# Altium schematic symbol library SelfLib.SchLib: 50 symbols
Pins are listed as number, name and electrical type; pins without a type are passive.

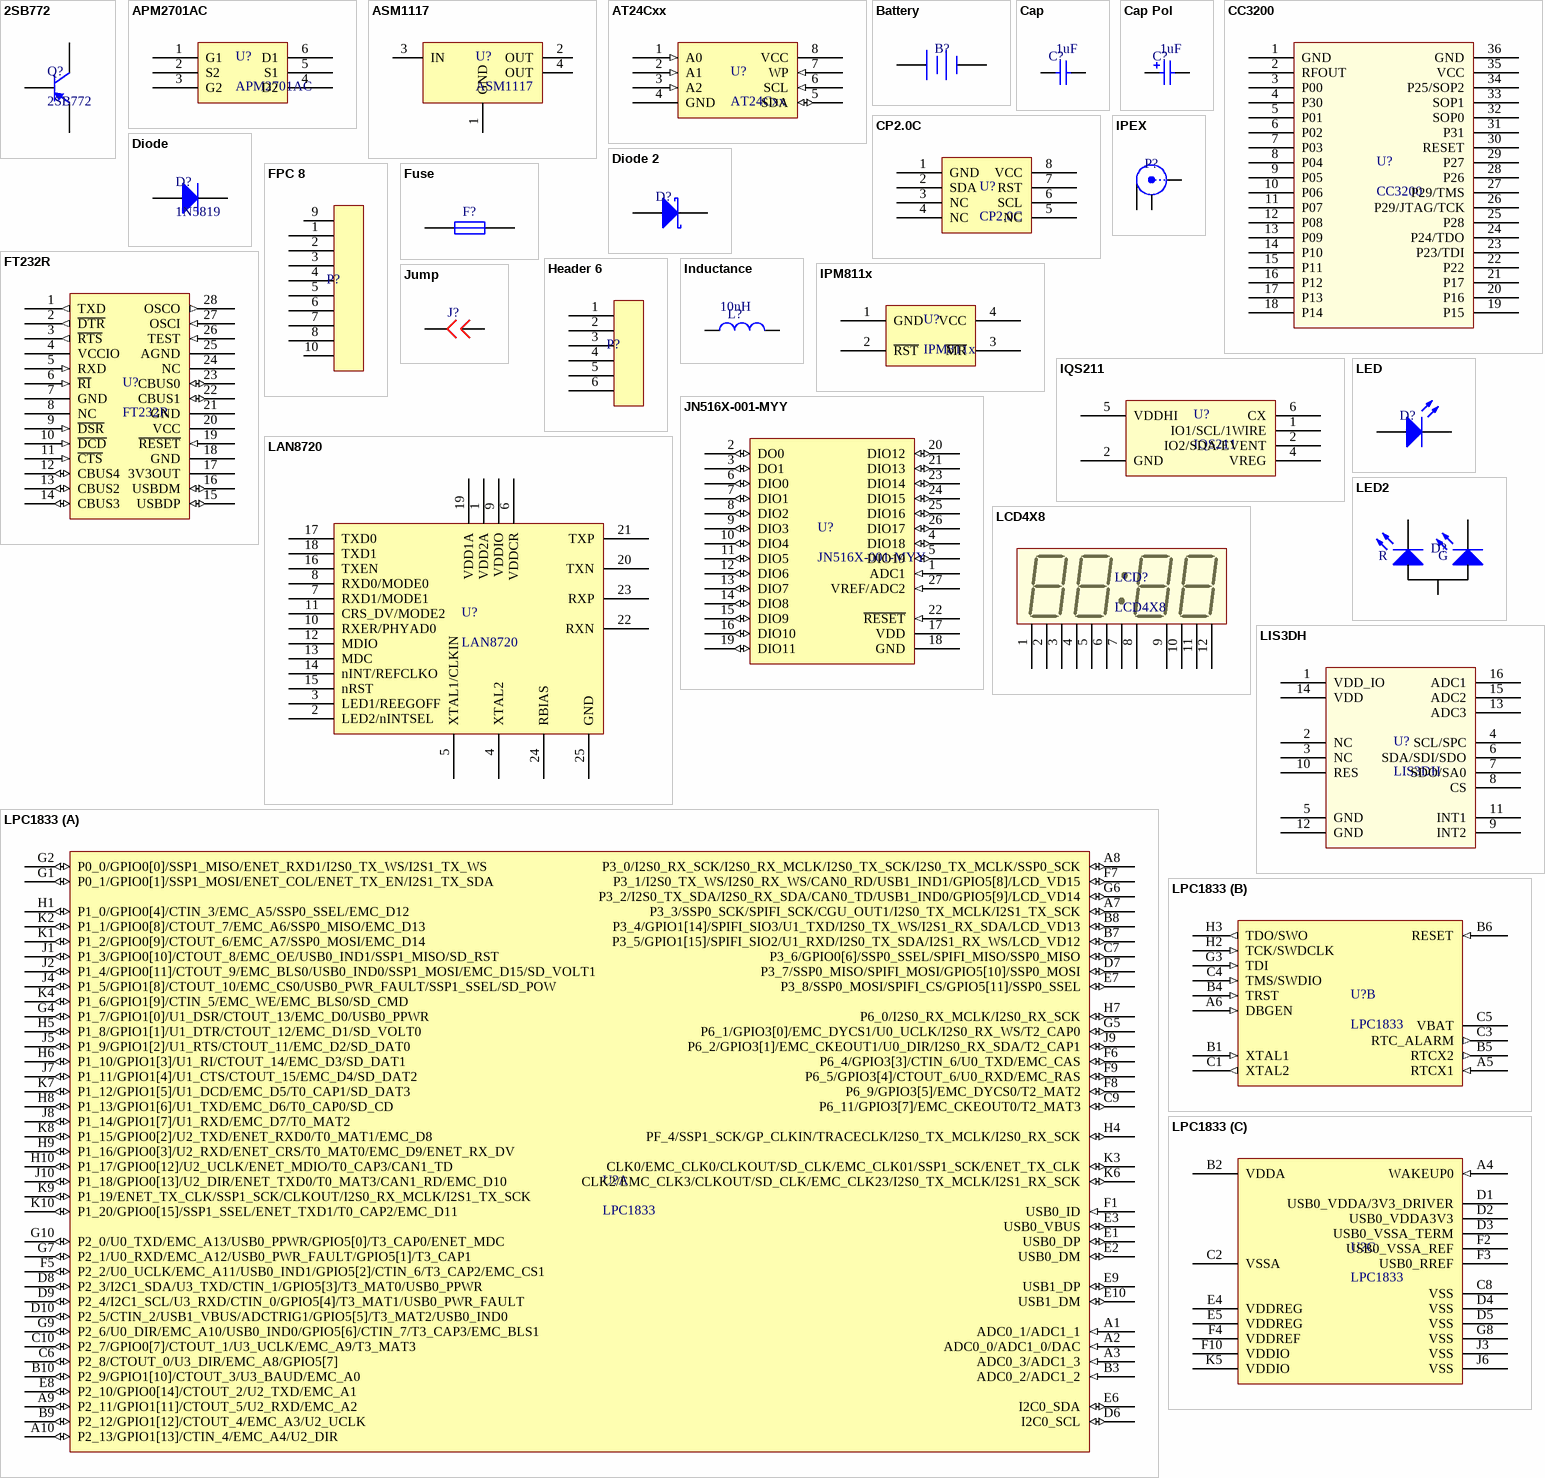
[diagram p0: symbols 2SB772 to LPC1833]

## 2SB772
designator Q?
footprint SOT-89
pins: 1 B, 2 C, 3 E

## APM2701AC
designator U?
footprint J-SOT-6
pins: 1 G1, 2 S2, 3 G2, 4 D2, 5 S1, 6 D1

## ASM1117
designator U?
footprint SOT-223
pins: 1 GND, 2 OUT, 3 IN, 4 OUT

## AT24Cxx
designator U?
footprint SOP-8
pins: 1 A0 (in), 2 A1 (in), 3 A2 (in), 4 GND (power), 5 SDA (io), 6 SCL (in), 7 WP (in), 8 VCC (power)

## Battery
designator B?  (value not drawn)
footprint SP_CR1220
pins: 1 +, 2 -

## Cap
designator C?, comment value 1uF  (hidden comment: CAP)
footprint 0402
footprint 0603
footprint 0805
footprint 1206
pins: 1, 2

## Cap Pol
designator C?, comment value 1uF  (hidden comment: Cap)
footprint 0402A
footprint 0603A
footprint 0805A
footprint 1206A
pins: 1, 2

## CC3200
designator U?
pins: 1 GND (power), 2 RFOUT (power), 3 P00 (power), 4 P30 (power), 5 P01 (power), 6 P02 (power), 7 P03 (power), 8 P04 (power), 9 P05 (power), 10 P06 (power), 11 P07 (power), 12 P08 (power), 13 P09 (power), 14 P10 (power), 15 P11 (power), 16 P12 (power), 17 P13 (power), 18 P14 (power), 19 P15 (power), 20 P16 (power), 21 P17 (power), 22 P22 (power), 23 P23/TDI (power), 24 P24/TDO (power), 25 P28 (power), 26 P29/JTAG/TCK (power), 27 P29/TMS (power), 28 P26 (power), 29 P27 (power), 30 RESET (power), 31 P31 (power), 32 SOP0 (power), 33 SOP1 (power), 34 P25/SOP2 (power), 35 VCC (power), 36 GND (power)

## CP2.0C
designator U?
footprint SP_CP2.0C
pins: 1 GND (power), 2 SDA (power), 3 NC (power), 4 NC (power), 5 NC (power), 6 SCL (power), 7 RST (power), 8 VCC (power)

## Diode
designator D?, comment 1N5819
footprint SOD-523
footprint SMA_DO-241AC
pins: 1 A, 2 K

## Diode 2
designator D?, comment B130  (value not drawn)
footprint SMA_DO-241AC
footprint SOD-523
pins: 1 A, 2 K

## FPC 8
designator P?  (value not drawn)
footprint FPC8 1.0
pins: 1, 2, 3, 4, 5, 6, 7, 8, 9, 10

## FT232R
designator U?
footprint SOP-28
pins: 1 TXD (out), 2 ~{DTR} (out), 3 ~{RTS} (out), 4 VCCIO (power), 5 RXD (in), 6 ~{RI} (in), 7 GND (power), 8 NC, 9 ~{DSR} (in), 10 ~{DCD} (in), 11 ~{CTS} (in), 12 CBUS4 (io), 13 CBUS2 (io), 14 CBUS3 (io), 15 USBDP (io), 16 USBDM (io), 17 3V3OUT (power), 18 GND (power), 19 ~{RESET} (in), 20 VCC (power), 21 GND (power), 22 CBUS1 (io), 23 CBUS0 (io), 24 NC, 25 AGND (power), 26 TEST (in), 27 OSCI (in), 28 OSCO (out)

## Fuse
designator F?  (value not drawn)
Value: 100mA
footprint 0603
footprint 0805
pins: 1, 2

## Header 6
designator P?, comment Header  (value not drawn)
footprint HDR1x6 1.27
pins: 1, 2, 3, 4, 5, 6

## Inductance
designator L?  value 10nH  (hidden comment: Inductance)
footprint 0402
footprint 0603
footprint 0805
footprint 1206
footprint GD4520/4532
footprint GDCD3516/3521
footprint GDCD5820/30/45
footprint GDCD7835/50
footprint GDCD1040/1054
pins: 1, 2

## IPEX
designator P?  (value not drawn)
RF Connector
footprint SP_IPEX
pins: 1 X, 2 Y, 3 Y'

## IPM811x
designator U?
footprint SOT143B
pins: 1 GND (power), 2 ~{RST} (power), 3 ~{MR} (power), 4 VCC (power)

## IQS211
designator U?
pins: 1 IO1/SCL/1WIRE (power), 2 IO2/SDA/EVENT (power), 2 GND (power), 4 VREG (power), 5 VDDHI (power), 6 CX (power)

## JN516X-001-MYY
designator U?
footprint SP_JN516X-001-M05
footprint SP_JN516X-001-M00
footprint SP_JN516X-001-M03
pins: 1 ADC1 (in), 2 DO0 (io), 3 DO1 (io), 4 DIO18 (io), 5 DIO19 (io), 6 DIO0 (io), 7 DIO1 (io), 8 DIO2 (io), 9 DIO3 (io), 10 DIO4 (io), 11 DIO5 (io), 12 DIO6 (io), 13 DIO7 (io), 14 DIO8 (io), 15 DIO9 (io), 16 DIO10 (io), 17 VDD (power), 18 GND (power), 19 DIO11 (io), 20 DIO12 (io), 21 DIO13 (io), 22 ~{RESET} (in), 23 DIO14 (io), 24 DIO15 (io), 25 DIO16 (io), 26 DIO17 (io), 27 VREF/ADC2 (in)

## Jump
designator J?  (value not drawn)
footprint SP_JUMP
pins: 1 C1, 2 C2

## LAN8720
designator U?
PHY
footprint QFN24_LAN8720
pins: 1 VDD2A, 2 LED2/nINTSEL, 3 LED1/REEGOFF, 4 XTAL2, 5 XTAL1/CLKIN, 6 VDDCR, 7 RXD1/MODE1, 8 RXD0/MODE0, 9 VDDIO, 10 RXER/PHYAD0, 11 CRS_DV/MODE2, 12 MDIO, 13 MDC, 14 nINT/REFCLKO, 15 nRST, 16 TXEN, 17 TXD0, 18 TXD1, 19 VDD1A, 20 TXN, 21 TXP, 22 RXN, 23 RXP, 24 RBIAS, 25 GND

## LCD4X8
designator LCD?
pins: 1 SEG1 (power), 2 SEG2 (power), 3 SEG3 (power), 4 SEG4 (power), 5 SEG5 (power), 6 SEG6 (power), 7 SEG7 (power), 8 SEG8 (power), 9 COM1 (power), 10 COM2 (power), 11 COM3 (power), 12 COM4 (power)

## LED
designator D?  (value not drawn)
Color: Green
footprint 0603A
footprint 0805A
pins: 1 A, 2 K

## LED2
designator D?, comment LED  (value not drawn)
footprint LED-D
pins: 1 K1, 2 A, 3 K2
text: R; G

## LIS3DH
designator U?
pins: 1 VDD_IO (power), 2 NC (power), 3 NC (power), 4 SCL/SPC (power), 5 GND (power), 6 SDA/SDI/SDO (power), 7 SDO/SA0 (power), 8 CS (power), 9 INT2 (power), 10 RES (power), 11 INT1 (power), 12 GND (power), 13 ADC3 (power), 14 VDD (power), 15 ADC2 (power), 16 ADC1 (power)

## LPC1833
designator U?
footprint TFBGA10x10
part A pins: A1 ADC0_1/ADC1_1 (in), A2 ADC0_0/ADC1_0/DAC (in), A3 ADC0_3/ADC1_3 (in), A7 P3_3/SSP0_SCK/SPIFI_SCK/CGU_OUT1/I2S0_TX_MCLK/I2S1_TX_SCK (io), A8 P3_0/I2S0_RX_SCK/I2S0_RX_MCLK/I2S0_TX_SCK/I2S0_TX_MCLK/SSP0_SCK (io), A9 P2_11/GPIO1[11]/CTOUT_5/U2_RXD/EMC_A2 (io), A10 P2_13/GPIO1[13]/CTIN_4/EMC_A4/U2_DIR (io), B3 ADC0_2/ADC1_2 (in), B7 P3_5/GPIO1[15]/SPIFI_SIO2/U1_RXD/I2S0_TX_SDA/I2S1_RX_WS/LCD_VD12 (io), B8 P3_4/GPIO1[14]/SPIFI_SIO3/U1_TXD/I2S0_TX_WS/I2S1_RX_SDA/LCD_VD13 (io), B9 P2_12/GPIO1[12]/CTOUT_4/EMC_A3/U2_UCLK (io), B10 P2_9/GPIO1[10]/CTOUT_3/U3_BAUD/EMC_A0 (io), C6 P2_8/CTOUT_0/U3_DIR/EMC_A8/GPIO5[7] (io), C7 P3_6/GPIO0[6]/SSP0_SSEL/SPIFI_MISO/SSP0_MISO (io), C9 P6_11/GPIO3[7]/EMC_CKEOUT0/T2_MAT3 (io), C10 P2_7/GPIO0[7]/CTOUT_1/U3_UCLK/EMC_A9/T3_MAT3 (io), D6 I2C0_SCL (io), D7 P3_7/SSP0_MISO/SPIFI_MOSI/GPIO5[10]/SSP0_MOSI (io), D8 P2_3/I2C1_SDA/U3_TXD/CTIN_1/GPIO5[3]/T3_MAT0/USB0_PPWR (io), D9 P2_4/I2C1_SCL/U3_RXD/CTIN_0/GPIO5[4]/T3_MAT1/USB0_PWR_FAULT (io), D10 P2_5/CTIN_2/USB1_VBUS/ADCTRIG1/GPIO5[5]/T3_MAT2/USB0_IND0 (io), E1 USB0_DP (io), E2 USB0_DM (io), E3 USB0_VBUS (io), E6 I2C0_SDA (io), E7 P3_8/SSP0_MOSI/SPIFI_CS/GPIO5[11]/SSP0_SSEL (io), E8 P2_10/GPIO0[14]/CTOUT_2/U2_TXD/EMC_A1 (io), E9 USB1_DP (io), E10 USB1_DM (io), F1 USB0_ID (in), F5 P2_2/U0_UCLK/EMC_A11/USB0_IND1/GPIO5[2]/CTIN_6/T3_CAP2/EMC_CS1 (io), F6 P6_4/GPIO3[3]/CTIN_6/U0_TXD/EMC_CAS (io), F7 P3_1/I2S0_TX_WS/I2S0_RX_WS/CAN0_RD/USB1_IND1/GPIO5[8]/LCD_VD15 (io), F8 P6_9/GPIO3[5]/EMC_DYCS0/T2_MAT2 (io), F9 P6_5/GPIO3[4]/CTOUT_6/U0_RXD/EMC_RAS (io), G1 P0_1/GPIO0[1]/SSP1_MOSI/ENET_COL/ENET_TX_EN/I2S1_TX_SDA (io), G2 P0_0/GPIO0[0]/SSP1_MISO/ENET_RXD1/I2S0_TX_WS/I2S1_TX_WS (io), G4 P1_7/GPIO1[0]/U1_DSR/CTOUT_13/EMC_D0/USB0_PPWR (io), G5 P6_1/GPIO3[0]/EMC_DYCS1/U0_UCLK/I2S0_RX_WS/T2_CAP0 (io), G6 P3_2/I2S0_TX_SDA/I2S0_RX_SDA/CAN0_TD/USB1_IND0/GPIO5[9]/LCD_VD14 (io), G7 P2_1/U0_RXD/EMC_A12/USB0_PWR_FAULT/GPIO5[1]/T3_CAP1 (io), G9 P2_6/U0_DIR/EMC_A10/USB0_IND0/GPIO5[6]/CTIN_7/T3_CAP3/EMC_BLS1 (io), G10 P2_0/U0_TXD/EMC_A13/USB0_PPWR/GPIO5[0]/T3_CAP0/ENET_MDC (io), H1 P1_0/GPIO0[4]/CTIN_3/EMC_A5/SSP0_SSEL/EMC_D12 (io), H4 PF_4/SSP1_SCK/GP_CLKIN/TRACECLK/I2S0_TX_MCLK/I2S0_RX_SCK (io), H5 P1_8/GPIO1[1]/U1_DTR/CTOUT_12/EMC_D1/SD_VOLT0 (io), H6 P1_10/GPIO1[3]/U1_RI/CTOUT_14/EMC_D3/SD_DAT1 (io), H7 P6_0/I2S0_RX_MCLK/I2S0_RX_SCK (io), H8 P1_13/GPIO1[6]/U1_TXD/EMC_D6/T0_CAP0/SD_CD (io), H9 P1_16/GPIO0[3]/U2_RXD/ENET_CRS/T0_MAT0/EMC_D9/ENET_RX_DV (io), H10 P1_17/GPIO0[12]/U2_UCLK/ENET_MDIO/T0_CAP3/CAN1_TD (io), J1 P1_3/GPIO0[10]/CTOUT_8/EMC_OE/USB0_IND1/SSP1_MISO/SD_RST (io), J2 P1_4/GPIO0[11]/CTOUT_9/EMC_BLS0/USB0_IND0/SSP1_MOSI/EMC_D15/SD_VOLT1 (io), J4 P1_5/GPIO1[8]/CTOUT_10/EMC_CS0/USB0_PWR_FAULT/SSP1_SSEL/SD_POW (io), J5 P1_9/GPIO1[2]/U1_RTS/CTOUT_11/EMC_D2/SD_DAT0 (io), J7 P1_11/GPIO1[4]/U1_CTS/CTOUT_15/EMC_D4/SD_DAT2 (io), J8 P1_14/GPIO1[7]/U1_RXD/EMC_D7/T0_MAT2 (io), J9 P6_2/GPIO3[1]/EMC_CKEOUT1/U0_DIR/I2S0_RX_SDA/T2_CAP1 (io), J10 P1_18/GPIO0[13]/U2_DIR/ENET_TXD0/T0_MAT3/CAN1_RD/EMC_D10 (io), K1 P1_2/GPIO0[9]/CTOUT_6/EMC_A7/SSP0_MOSI/EMC_D14 (io), K2 P1_1/GPIO0[8]/CTOUT_7/EMC_A6/SSP0_MISO/EMC_D13 (io), K3 CLK0/EMC_CLK0/CLKOUT/SD_CLK/EMC_CLK01/SSP1_SCK/ENET_TX_CLK (io), K4 P1_6/GPIO1[9]/CTIN_5/EMC_WE/EMC_BLS0/SD_CMD (io), K6 CLK2/EMC_CLK3/CLKOUT/SD_CLK/EMC_CLK23/I2S0_TX_MCLK/I2S1_RX_SCK (io), K7 P1_12/GPIO1[5]/U1_DCD/EMC_D5/T0_CAP1/SD_DAT3 (io), K8 P1_15/GPIO0[2]/U2_TXD/ENET_RXD0/T0_MAT1/EMC_D8 (io), K9 P1_19/ENET_TX_CLK/SSP1_SCK/CLKOUT/I2S0_RX_MCLK/I2S1_TX_SCK (io), K10 P1_20/GPIO0[15]/SSP1_SSEL/ENET_TXD1/T0_CAP2/EMC_D11 (io)
part B pins: A5 RTCX1 (in), A6 DBGEN (in), B1 XTAL1 (in), B4 TRST (in), B5 RTCX2 (out), B6 RESET (in), C1 XTAL2 (out), C3 RTC_ALARM (out), C4 TMS/SWDIO (in), C5 VBAT (power), G3 TDI (in), H2 TCK/SWDCLK (in), H3 TDO/SWO (out)
part C pins: A4 WAKEUP0 (in), B2 VDDA (power), C2 VSSA (power), C8 VSS (power), D1 USB0_VDDA/3V3_DRIVER (power), D2 USB0_VDDA3V3 (power), D3 USB0_VSSA_TERM (power), D4 VSS (power), D5 VSS (power), E4 VDDREG (power), E5 VDDREG (power), F2 USB0_VSSA_REF (power), F3 USB0_RREF, F4 VDDREF (power), F10 VDDIO (power), G8 VSS (power), J3 VSS (power), J6 VSS (power), K5 VDDIO (power)

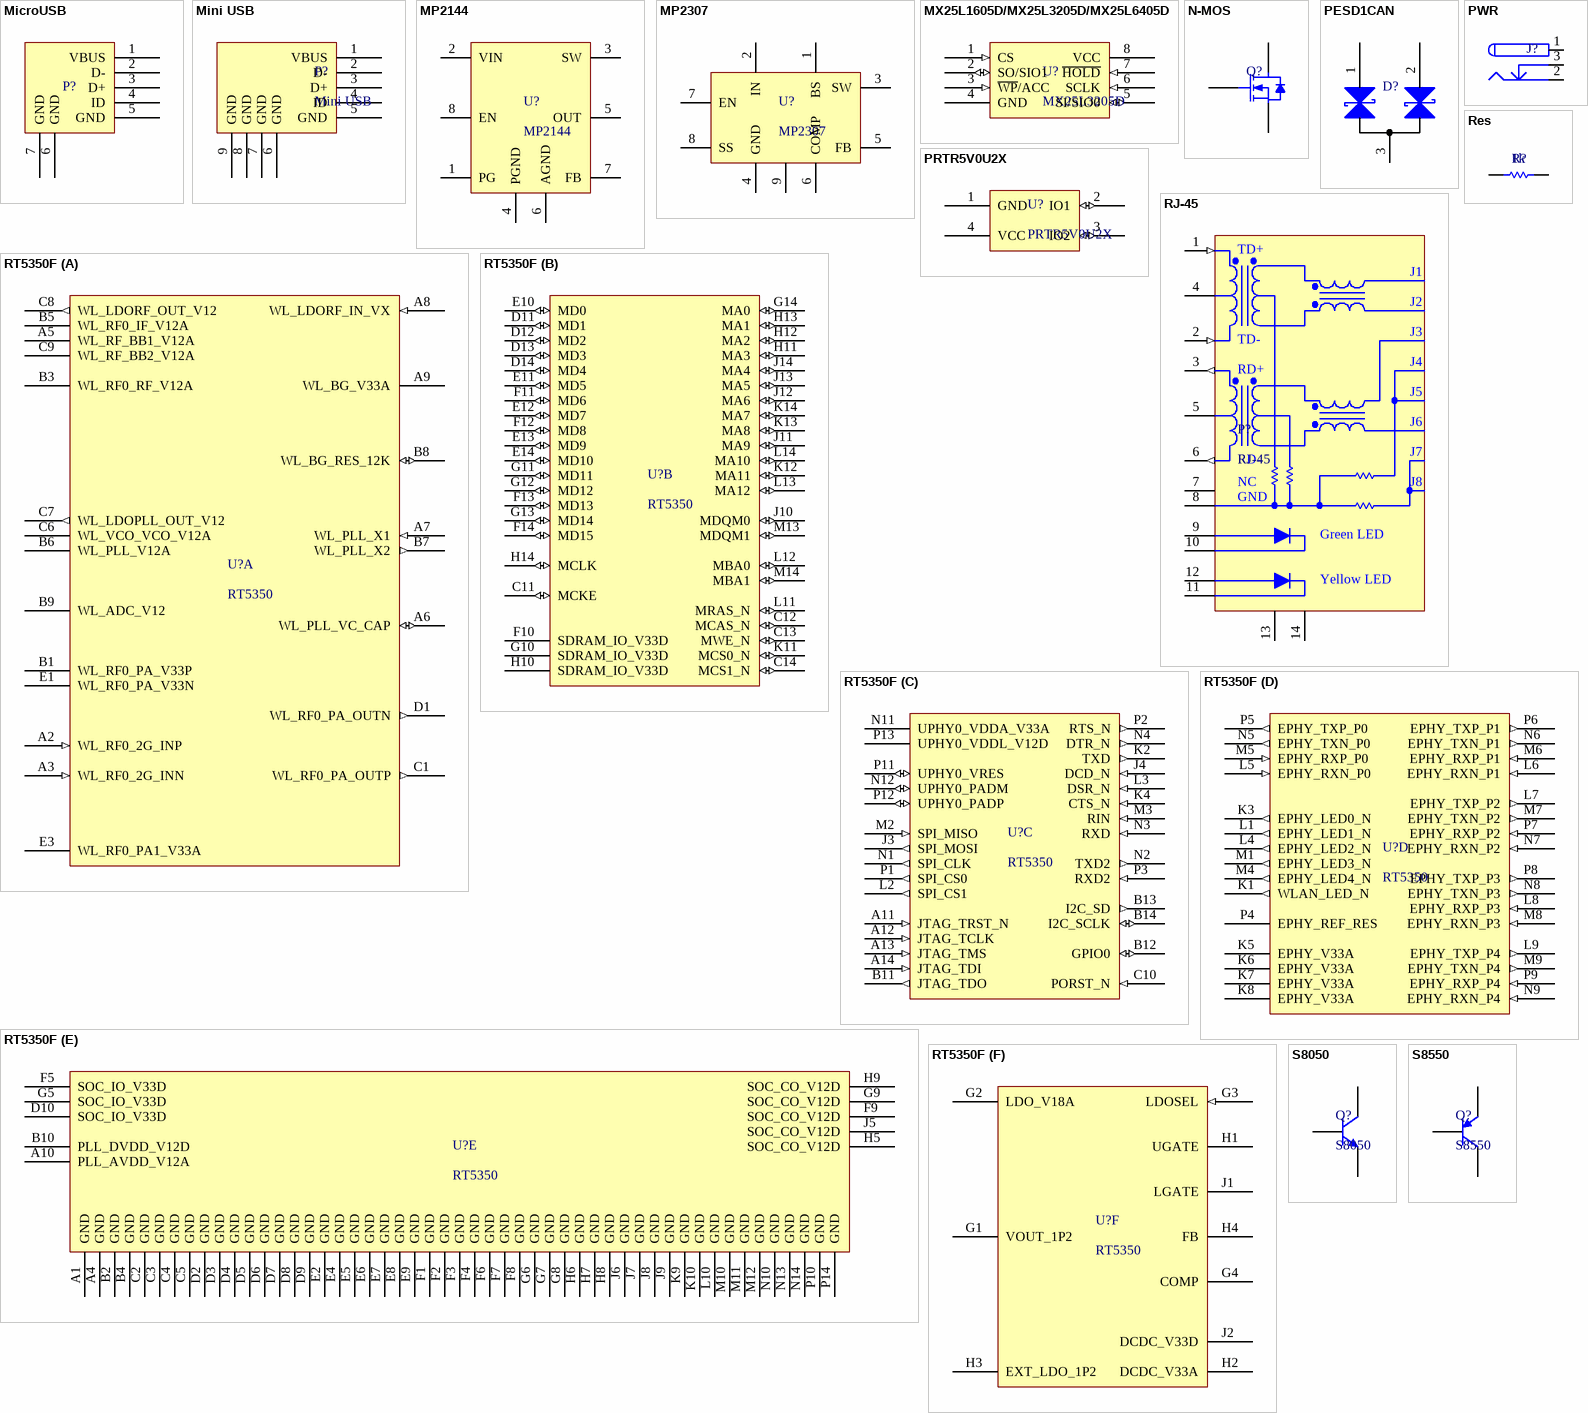
[diagram p1: symbols MicroUSB to S8550]

## MicroUSB
designator P?, comment Micro USB  (value not drawn)
footprint USB_MICRO_FE
pins: 1 VBUS, 2 D-, 3 D+, 4 ID, 5 GND, 6 GND, 7 GND

## Mini USB
designator P?
footprint USB_MINI_FE
pins: 1 VBUS, 2 D-, 3 D+, 4 ID, 5 GND, 6 GND, 7 GND, 8 GND, 9 GND

## MP2144
designator U?
footprint TSOT-23-81
pins: 1 PG (power), 2 VIN (power), 3 SW (power), 4 PGND (power), 5 OUT (power), 6 AGND (power), 7 FB (power), 8 EN (power)

## MP2307
designator U?
footprint SOIC8N
pins: 1 BS, 2 IN, 3 SW, 4 GND, 5 FB, 6 COMP, 7 EN, 8 SS, 9 ExPad

## MX25L1605D/MX25L3205D/MX25L6405D
designator U?, comment MX25L3205D
footprint SOP-8
pins: 1 CS (in), 2 SO/SIO1 (io), 3 ~{WP}/ACC (in), 4 GND (power), 5 SI/SIO0 (io), 6 SCLK (in), 7 ~{HOLD} (in), 8 VCC (power)

## N-MOS
designator Q?  (value not drawn)
footprint SOT-23
pins: 1 G, 2 S, 3 D

## PESD1CAN
designator D?, comment ESD  (value not drawn)
footprint SOT-23
pins: 1 (hiz), 2 (hiz), 3 (power)

## PRTR5V0U2X
designator U?
footprint SOT143B
pins: 1 GND (power), 2 IO1 (io), 3 IO2 (io), 4 VCC (power)

## PWR
designator J?, comment PowerSocket  (value not drawn)
Power Socket
footprint SP_PWR
pins: 1 A, 2 K, 3 K_NC

## Res
designator R?  value 1k  (hidden comment: Res)
footprint 0402
footprint 0603
footprint 0805
footprint 1206
pins: 1, 2

## RJ-45
designator P?
footprint RJ-45
pins: 1 P1 (in), 2 P2 (in), 3 P3 (out), 4 P4, 5 P5, 6 P6 (out), 7 P7 (power), 8 P8 (power), 9 P9 (power), 10 P10 (power), 11 P11 (power), 12 P12 (power), 13 GND (power), 14 GND (power)
text: TD+; J1; J2; J3; TD-; J4; RD+; J5; J6; J7; RD-; NC; J8; Green LED; Yellow LED

## RT5350F
designator U?, comment RT5350
footprint BGA 14x14
part A pins: A2 WL_RF0_2G_INP (in), A3 WL_RF0_2G_INN (in), A5 WL_RF_BB1_V12A (power), A6 WL_PLL_VC_CAP (io), A7 WL_PLL_X1 (in), A8 WL_LDORF_IN_VX (in), A9 WL_BG_V33A (power), B1 WL_RF0_PA_V33P (power), B3 WL_RF0_RF_V12A (power), B5 WL_RF0_IF_V12A (power), B6 WL_PLL_V12A (power), B7 WL_PLL_X2 (out), B8 WL_BG_RES_12K (io), B9 WL_ADC_V12 (power), C1 WL_RF0_PA_OUTP (out), C6 WL_VCO_VCO_V12A (power), C7 WL_LDOPLL_OUT_V12 (out), C8 WL_LDORF_OUT_V12 (out), C9 WL_RF_BB2_V12A (power), D1 WL_RF0_PA_OUTN (out), E1 WL_RF0_PA_V33N (power), E3 WL_RF0_PA1_V33A (power)
part B pins: C11 MCKE (io), C12 MCAS_N (io), C13 MWE_N (io), C14 MCS1_N (io), D11 MD1 (io), D12 MD2 (io), D13 MD3 (io), D14 MD4 (io), E10 MD0 (io), E11 MD5 (io), E12 MD7 (io), E13 MD9 (io), E14 MD10 (io), F10 SDRAM_IO_V33D (power), F11 MD6 (io), F12 MD8 (io), F13 MD13 (io), F14 MD15 (io), G10 SDRAM_IO_V33D (power), G11 MD11 (io), G12 MD12 (io), G13 MD14 (io), G14 MA0 (io), H10 SDRAM_IO_V33D (power), H11 MA3 (io), H12 MA2 (io), H13 MA1 (io), H14 MCLK (io), J10 MDQM0 (io), J11 MA9 (io), J12 MA6 (io), J13 MA5 (io), J14 MA4 (io), K11 MCS0_N (io), K12 MA11 (io), K13 MA8 (io), K14 MA7 (io), L11 MRAS_N (io), L12 MBA0 (io), L13 MA12 (io), L14 MA10 (io), M13 MDQM1 (io), M14 MBA1 (io)
part C pins: A11 JTAG_TRST_N (in), A12 JTAG_TCLK (in), A13 JTAG_TMS (in), A14 JTAG_TDI (in), B11 JTAG_TDO (out), B12 GPIO0 (io), B13 I2C_SD (out), B14 I2C_SCLK (io), C10 PORST_N (in), J3 SPI_MOSI (out), J4 DCD_N (in), K2 TXD (out), K4 CTS_N (in), L2 SPI_CS1 (out), L3 DSR_N (in), M2 SPI_MISO (in), M3 RIN (in), N1 SPI_CLK (out), N2 TXD2 (out), N3 RXD (in), N4 DTR_N (out), N11 UPHY0_VDDA_V33A (power), N12 UPHY0_PADM (io), P1 SPI_CS0 (out), P2 RTS_N (out), P3 RXD2 (in), P11 UPHY0_VRES (io), P12 UPHY0_PADP (io), P13 UPHY0_VDDL_V12D (power)
part D pins: K1 WLAN_LED_N (out), K3 EPHY_LED0_N (out), K5 EPHY_V33A (power), K6 EPHY_V33A (power), K7 EPHY_V33A (power), K8 EPHY_V33A (power), L1 EPHY_LED1_N (out), L4 EPHY_LED2_N (out), L5 EPHY_RXN_P0 (in), L6 EPHY_RXN_P1 (in), L7 EPHY_TXP_P2 (out), L8 EPHY_RXP_P3 (in), L9 EPHY_TXP_P4 (out), M1 EPHY_LED3_N (out), M4 EPHY_LED4_N (out), M5 EPHY_RXP_P0 (in), M6 EPHY_RXP_P1 (in), M7 EPHY_TXN_P2 (out), M8 EPHY_RXN_P3 (in), M9 EPHY_TXN_P4 (out), N5 EPHY_TXN_P0 (out), N6 EPHY_TXN_P1 (out), N7 EPHY_RXN_P2 (in), N8 EPHY_TXN_P3 (out), N9 EPHY_RXN_P4 (in), P4 EPHY_REF_RES (hiz), P5 EPHY_TXP_P0 (out), P6 EPHY_TXP_P1 (out), P7 EPHY_RXP_P2 (in), P8 EPHY_TXP_P3 (out), P9 EPHY_RXP_P4 (in)
part E pins: A1 GND (power), A4 GND (power), A10 PLL_AVDD_V12A (power), B2 GND (power), B4 GND (power), B10 PLL_DVDD_V12D (power), C2 GND (power), C3 GND (power), C4 GND (power), C5 GND (power), D2 GND (power), D3 GND (power), D4 GND (power), D5 GND (power), D6 GND (power), D7 GND (power), D8 GND (power), D9 GND (power), D10 SOC_IO_V33D (power), E2 GND (power), E4 GND (power), E5 GND (power), E6 GND (power), E7 GND (power), E8 GND (power), E9 GND (power), F1 GND (power), F2 GND (power), F3 GND (power), F4 GND (power), F5 SOC_IO_V33D (power), F6 GND (power), F7 GND (power), F8 GND (power), F9 SOC_CO_V12D (power), G5 SOC_IO_V33D (power), G6 GND (power), G7 GND (power), G8 GND (power), G9 SOC_CO_V12D (power), H5 SOC_CO_V12D (power), H6 GND (power), H7 GND (power), H8 GND (power), H9 SOC_CO_V12D (power), J5 SOC_CO_V12D (power), J6 GND (power), J7 GND (power), J8 GND (power), J9 GND (power), K9 GND (power), K10 GND (power), L10 GND (power), M10 GND (power), M11 GND (power), M12 GND (power), N10 GND (power), N13 GND (power), N14 GND (power), P10 GND (power), P14 GND (power)
part F pins: G1 VOUT_1P2 (power), G2 LDO_V18A (power), G3 LDOSEL (in), G4 COMP (hiz), H1 UGATE (hiz), H2 DCDC_V33A (power), H3 EXT_LDO_1P2 (power), H4 FB (hiz), J1 LGATE (hiz), J2 DCDC_V33D (power)

## S8050
designator Q?
footprint SOT-23
pins: 1 B, 2 E, 3 C

## S8550
designator Q?
footprint SOT-23
pins: 1 B, 2 E, 3 C

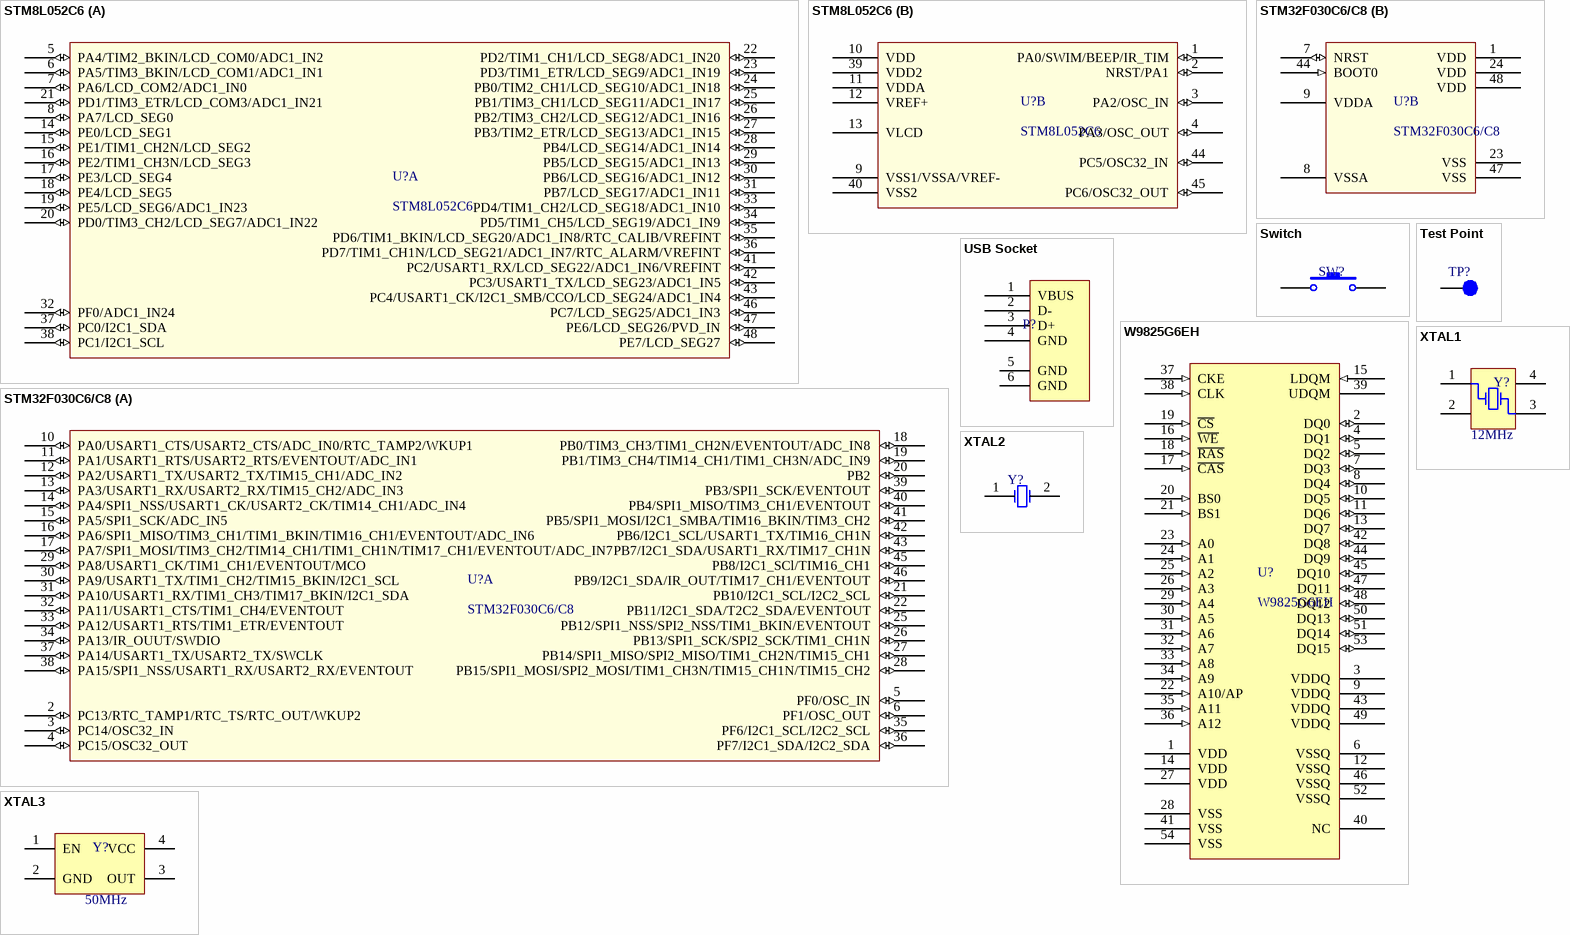
[diagram p2: symbols STM8L052C6 to XTAL3]

## STM8L052C6
designator U?
part A pins: 5 PA4/TIM2_BKIN/LCD_COM0/ADC1_IN2 (io), 6 PA5/TIM3_BKIN/LCD_COM1/ADC1_IN1 (io), 7 PA6/LCD_COM2/ADC1_IN0 (io), 8 PA7/LCD_SEG0 (io), 14 PE0/LCD_SEG1 (io), 15 PE1/TIM1_CH2N/LCD_SEG2 (io), 16 PE2/TIM1_CH3N/LCD_SEG3 (io), 17 PE3/LCD_SEG4 (io), 18 PE4/LCD_SEG5 (io), 19 PE5/LCD_SEG6/ADC1_IN23 (io), 20 PD0/TIM3_CH2/LCD_SEG7/ADC1_IN22 (io), 21 PD1/TIM3_ETR/LCD_COM3/ADC1_IN21 (io), 22 PD2/TIM1_CH1/LCD_SEG8/ADC1_IN20 (io), 23 PD3/TIM1_ETR/LCD_SEG9/ADC1_IN19 (io), 24 PB0/TIM2_CH1/LCD_SEG10/ADC1_IN18 (io), 25 PB1/TIM3_CH1/LCD_SEG11/ADC1_IN17 (io), 26 PB2/TIM3_CH2/LCD_SEG12/ADC1_IN16 (io), 27 PB3/TIM2_ETR/LCD_SEG13/ADC1_IN15 (io), 28 PB4/LCD_SEG14/ADC1_IN14 (io), 29 PB5/LCD_SEG15/ADC1_IN13 (io), 30 PB6/LCD_SEG16/ADC1_IN12 (io), 31 PB7/LCD_SEG17/ADC1_IN11 (io), 32 PF0/ADC1_IN24 (io), 33 PD4/TIM1_CH2/LCD_SEG18/ADC1_IN10 (io), 34 PD5/TIM1_CH5/LCD_SEG19/ADC1_IN9 (io), 35 PD6/TIM1_BKIN/LCD_SEG20/ADC1_IN8/RTC_CALIB/VREFINT (io), 36 PD7/TIM1_CH1N/LCD_SEG21/ADC1_IN7/RTC_ALARM/VREFINT (io), 37 PC0/I2C1_SDA (io), 38 PC1/I2C1_SCL (io), 41 PC2/USART1_RX/LCD_SEG22/ADC1_IN6/VREFINT (io), 42 PC3/USART1_TX/LCD_SEG23/ADC1_IN5 (io), 43 PC4/USART1_CK/I2C1_SMB/CCO/LCD_SEG24/ADC1_IN4 (io), 46 PC7/LCD_SEG25/ADC1_IN3 (io), 47 PE6/LCD_SEG26/PVD_IN (io), 48 PE7/LCD_SEG27 (io)
part B pins: 1 PA0/SWIM/BEEP/IR_TIM (io), 2 NRST/PA1 (io), 3 PA2/OSC_IN (io), 4 PA3/OSC_OUT (io), 9 VSS1/VSSA/VREF- (power), 10 VDD (power), 11 VDDA (power), 12 VREF+ (power), 13 VLCD (power), 39 VDD2 (power), 40 VSS2 (power), 44 PC5/OSC32_IN (io), 45 PC6/OSC32_OUT (io)

## STM32F030C6/C8
designator U?
part A pins: 2 PC13/RTC_TAMP1/RTC_TS/RTC_OUT/WKUP2 (io), 3 PC14/OSC32_IN (io), 4 PC15/OSC32_OUT (io), 5 PF0/OSC_IN (io), 6 PF1/OSC_OUT (io), 10 PA0/USART1_CTS/USART2_CTS/ADC_IN0/RTC_TAMP2/WKUP1 (io), 11 PA1/USART1_RTS/USART2_RTS/EVENTOUT/ADC_IN1 (io), 12 PA2/USART1_TX/USART2_TX/TIM15_CH1/ADC_IN2 (io), 13 PA3/USART1_RX/USART2_RX/TIM15_CH2/ADC_IN3 (io), 14 PA4/SPI1_NSS/USART1_CK/USART2_CK/TIM14_CH1/ADC_IN4 (io), 15 PA5/SPI1_SCK/ADC_IN5 (io), 16 PA6/SPI1_MISO/TIM3_CH1/TIM1_BKIN/TIM16_CH1/EVENTOUT/ADC_IN6 (io), 17 PA7/SPI1_MOSI/TIM3_CH2/TIM14_CH1/TIM1_CH1N/TIM17_CH1/EVENTOUT/ADC_IN7 (io), 18 PB0/TIM3_CH3/TIM1_CH2N/EVENTOUT/ADC_IN8 (io), 19 PB1/TIM3_CH4/TIM14_CH1/TIM1_CH3N/ADC_IN9 (io), 20 PB2 (io), 21 PB10/I2C1_SCL/I2C2_SCL (io), 22 PB11/I2C1_SDA/T2C2_SDA/EVENTOUT (io), 25 PB12/SPI1_NSS/SPI2_NSS/TIM1_BKIN/EVENTOUT (io), 26 PB13/SPI1_SCK/SPI2_SCK/TIM1_CH1N (io), 27 PB14/SPI1_MISO/SPI2_MISO/TIM1_CH2N/TIM15_CH1 (io), 28 PB15/SPI1_MOSI/SPI2_MOSI/TIM1_CH3N/TIM15_CH1N/TIM15_CH2 (io), 29 PA8/USART1_CK/TIM1_CH1/EVENTOUT/MCO (io), 30 PA9/USART1_TX/TIM1_CH2/TIM15_BKIN/I2C1_SCL (io), 31 PA10/USART1_RX/TIM1_CH3/TIM17_BKIN/I2C1_SDA (io), 32 PA11/USART1_CTS/TIM1_CH4/EVENTOUT (io), 33 PA12/USART1_RTS/TIM1_ETR/EVENTOUT (io), 34 PA13/IR_OUUT/SWDIO (io), 35 PF6/I2C1_SCL/I2C2_SCL (io), 36 PF7/I2C1_SDA/I2C2_SDA (io), 37 PA14/USART1_TX/USART2_TX/SWCLK (io), 38 PA15/SPI1_NSS/USART1_RX/USART2_RX/EVENTOUT (io), 39 PB3/SPI1_SCK/EVENTOUT (io), 40 PB4/SPI1_MISO/TIM3_CH1/EVENTOUT (io), 41 PB5/SPI1_MOSI/I2C1_SMBA/TIM16_BKIN/TIM3_CH2 (io), 42 PB6/I2C1_SCL/USART1_TX/TIM16_CH1N (io), 43 PB7/I2C1_SDA/USART1_RX/TIM17_CH1N (io), 45 PB8/I2C1_SCl/TIM16_CH1 (io), 46 PB9/I2C1_SDA/IR_OUT/TIM17_CH1/EVENTOUT (io)
part B pins: 1 VDD (power), 7 NRST (io), 8 VSSA (power), 9 VDDA (power), 23 VSS (power), 24 VDD (power), 44 BOOT0 (in), 47 VSS (power), 48 VDD (power)

## Switch
designator SW?  (value not drawn)
footprint SP_SW
pins: 1, 2

## Test Point
designator TP?, comment TestPoint  (value not drawn)
footprint SP_TP1
footprint SP_TP2
pins: 1 TP1

## USB Socket
designator P?, comment USB  (value not drawn)
footprint USB_A_FE
footprint USB_B_FE (USB Female B Type Socket)
pins: 1 VBUS, 2 D-, 3 D+, 4 GND, 5 GND, 6 GND

## W9825G6EH
designator U?
footprint TSOP-54
pins: 1 VDD (power), 2 DQ0 (io), 3 VDDQ (power), 4 DQ1 (io), 5 DQ2 (io), 6 VSSQ (power), 7 DQ3 (io), 8 DQ4 (io), 9 VDDQ (power), 10 DQ5 (io), 11 DQ6 (io), 12 VSSQ (power), 13 DQ7 (io), 14 VDD (power), 15 LDQM (in), 16 ~{WE} (in), 17 ~{CAS} (in), 18 ~{RAS} (in), 19 ~{CS} (in), 20 BS0 (in), 21 BS1 (in), 22 A10/AP (in), 23 A0 (in), 24 A1 (in), 25 A2 (in), 26 A3 (in), 27 VDD (power), 28 VSS (power), 29 A4 (in), 30 A5 (in), 31 A6 (in), 32 A7 (in), 33 A8 (in), 34 A9 (in), 35 A11 (in), 36 A12 (in), 37 CKE (in), 38 CLK (in), 39 UDQM (power), 40 NC (power), 41 VSS (power), 42 DQ8 (io), 43 VDDQ (power), 44 DQ9 (io), 45 DQ10 (io), 46 VSSQ (power), 47 DQ11 (io), 48 DQ12 (io), 49 VDDQ (power), 50 DQ13 (io), 51 DQ14 (io), 52 VSSQ (power), 53 DQ15 (io), 54 VSS (power)

## XTAL1
designator Y?  value 12MHz  (hidden comment: XTAL1)
footprint SP_XTAL_3225
pins: 1 OSC1, 2 GND, 3 OSC2, 4 GND

## XTAL2
designator Y?  (value not drawn)
Value: 12MHz
footprint SP_XTAL
footprint SP_XTAL_FC-135
footprint SP_XTAL_FC-145
footprint SP_XTAL_FC-225
pins: 1 OSC1, 2 OSC2

## XTAL3
designator Y?, comment value 50MHz  (hidden comment: XTAL)
footprint SP_XTAL_3225
pins: 1 EN, 2 GND, 3 OUT, 4 VCC